# Altium schematic symbol library LCD_ST7789.SchLib: 1 symbol
Pins are listed as number, name and electrical type; pins without a type are passive.

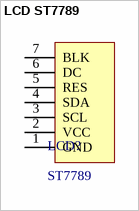
[diagram p0: symbol LCD ST7789]

## LCD ST7789
designator LCD?, comment ST7789
footprint ST7789
pins: 1 GND, 2 VCC, 3 SCL, 4 SDA, 5 RES, 6 DC, 7 BLK